# Altium footprint library Displays.PcbLib: 1 footprints
Each footprint in its own frame and in the unit in brackets; x right, y up, seen from the top. Pads: shape width x height; smd on the part's side, far side on the other; paste and mask are expansions set on the pad; w line width, h text height; cw(c..) or ccw(c..) is an arc to the next point about the centre after c.
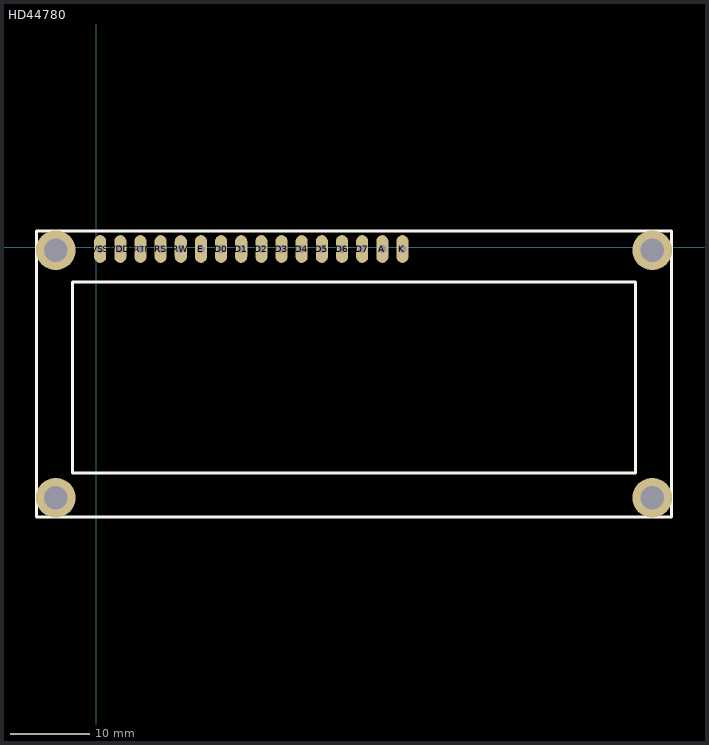
[diagram p0: the footprint, top view; thin cyan lines are the x and y axes]

## HD44780 [mm]
pads (20):
  oval 1.524x3.5 hole 1: A(36.068,-0.254) BRTN(5.588,-0.254) D0(15.748,-0.254) D1(18.288,-0.254) D2(20.828,-0.254) D3(23.368,-0.254) D4(25.908,-0.254) D5(28.448,-0.254) D6(30.988,-0.254) D7(33.528,-0.254) E(13.208,-0.254) K(38.608,-0.254) RS(8.128,-0.254) RW(10.668,-0.254) VDD(3.048,-0.254) VSS(0.508,-0.254)
  round 5 hole 3: ""(-5.1,-31.6) ""(-5.1,-0.4) ""(70.1,-31.6) ""(70.1,-0.4)
Top Overlay:
  lines w0.381: -7.5,-34 72.5,-34 72.5,2 -7.5,2 -7.5,-34 ; -3,-28.5 -3,-4.4 68,-4.4 68,-28.5 -3,-28.5
3D body "DFRobot_1602_LCD.STEP": height 10.61, standoff 0.01, extent -7.493,-33.968 72.507,2.032